# Altium footprint library D0-214.PcbLib: 2 footprints
Each footprint in its own frame and in the unit in brackets; x right, y up, seen from the top. Pads: shape width x height; smd on the part's side, far side on the other; paste and mask are expansions set on the pad; w line width, h text height; cw(c..) or ccw(c..) is an arc to the next point about the centre after c.
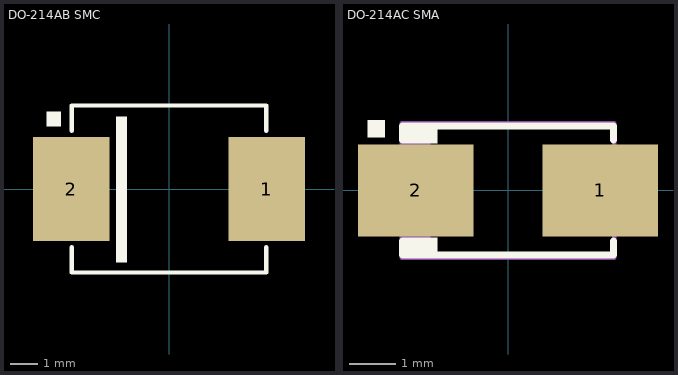
[diagram p0: the footprints below, top view; thin cyan lines are the x and y axes]

## DO-214AB SMC [mil]
height 94.88
pads (2):
  rect 110x150 smd: 1(140.49,0) 2(-140.49,0)
Top Overlay:
  rectangle: -176.18,89.57 -155.51,111.22
  rectangle: -75.79,-105.31 -60.04,104.33
  lines w6: -139.76,-83.66 -139.76,-120.08 139.76,-120.08 139.76,-83.66 ; -139.76,83.66 -139.76,120.08 139.76,120.08 139.76,83.66
3D body: height 90.75, standoff 0, extent -156.5,-116.14 156.5,116.14

## DO-214AC SMA [mm] "DO-214AC SMA Diode"
height 2.3
pads (2):
  rect 2.5x2 smd mask+0.025: 1(2,0) 2(-2,0)
Top Overlay:
  rectangle: -3.048,1.143 -2.667,1.524
  rectangle: -2.286,-1.373 -1.524,-1.016
  rectangle: -2.286,1.016 -1.524,1.373
  lines w0.152: -2.286,-1.092 -2.286,-1.397 2.286,-1.397 2.286,-1.092 ; -2.286,1.092 -2.286,1.397 2.286,1.397 2.286,1.092
Mechanical 13:
  rectangle: -2.3,-1.46 -1.681,1.46
  lines w0.1: -2.3,-1.46 2.3,-1.46 2.3,1.46 -2.3,1.46 -2.3,-1.46
3D body: height 2.4, standoff 0, extent -2.473,-1.33 2.727,1.27